# Altium footprint library Tápegység_Teszt_Panel1.PcbLib: 4 footprints
Each footprint in its own frame and in the unit in brackets; x right, y up, seen from the top. Pads: shape width x height; smd on the part's side, far side on the other; paste and mask are expansions set on the pad; w line width, h text height; cw(c..) or ccw(c..) is an arc to the next point about the centre after c.
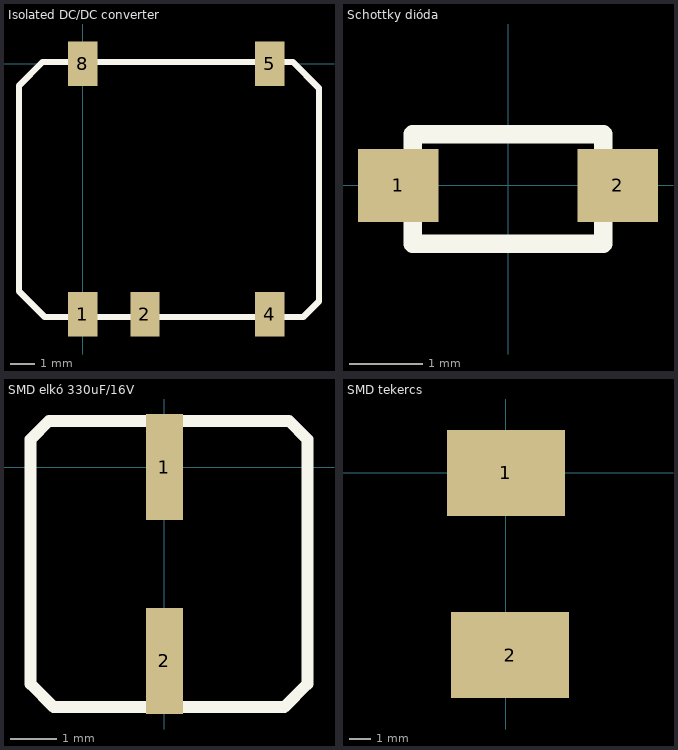
[diagram p0: the footprints below, top view; thin cyan lines are the x and y axes]

## Isolated DC/DC converter [mm] "R1SE-3.305/H2-R"
pads (5):
  rect 1.2x1.8 smd: 1(0,-10.2) 2(2.54,-10.2) 4(7.62,-10.2) 5(7.62,0) 8(0,0)
Top Overlay:
  lines w0.254: -2.591,-9.271 -2.591,-0.889 -1.626,0.076 8.56,0.076 9.627,-0.991 9.627,-9.677 8.992,-10.312 -1.549,-10.312 -2.591,-9.271

## Schottky dióda [mm] "1N5819HW"
pads (2):
  rect 1.1x1 smd: 1(-1.5,0) 2(1.5,0)
Top Overlay:
  lines w0.254: -1.3,-0.8 -1.3,0.7 1.3,0.7 1.3,-0.8 -1.3,-0.8

## SMD elkó 330uF/16V [mm] "EMZR160ADA331MF80G"
pads (2):
  rect 0.8x2.3 smd: 1(0,0) 2(0,-4.2)
Top Overlay:
  lines w0.254: -2.9,-4.7 -2.9,0.6 -2.5,1 2.7,1 3.1,0.6 3.1,-4.7 2.6,-5.2 -2.4,-5.2 -2.9,-4.7

## SMD tekercs [mm] "MSS1278T-334KLD"
pads (2):
  rect 5.5x4 smd: 1(0,0) 2(0.2,-8.5)